# Altium footprint library 5015681507.PcbLib: 1 footprints
Each footprint in its own frame and in the unit in brackets; x right, y up, seen from the top. Pads: shape width x height; smd on the part's side, far side on the other; paste and mask are expansions set on the pad; w line width, h text height; cw(c..) or ccw(c..) is an arc to the next point about the centre after c.
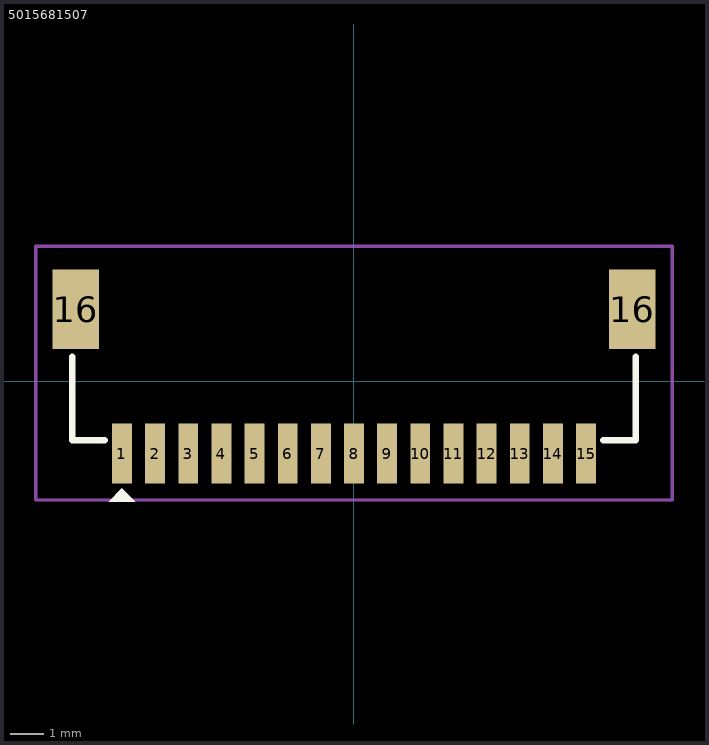
[diagram p0: the footprint, top view; thin cyan lines are the x and y axes]

## 5015681507 [mm]
pads (17):
  rect 0.6x1.8 smd: 1(-7,-2.175) 2(-6,-2.175) 3(-5,-2.175) 4(-4,-2.175) 5(-3,-2.175) 6(-2,-2.175) 7(-1,-2.175) 8(0,-2.175) 9(1,-2.175) 10(2,-2.175) 11(3,-2.175) 12(4,-2.175) 13(5,-2.175) 14(6,-2.175) 15(7,-2.175)
  rect 1.4x2.4 smd: 16(-8.4,2.175) 16(8.4,2.175)
Top Overlay:
  region: -6.6,-3.625 -7.4,-3.625 -7,-3.225
  lines w0.2: -8.5,0.75 -8.5,-1.775 -7.525,-1.775 ; 7.525,-1.775 8.5,-1.775 8.5,0.75
Top Courtyard:
  lines w0.1: -9.6,0.975 -9.6,-3.575 ; -9.6,-3.575 -9.6,4.075 9.6,4.075 9.6,-3.575 -9.6,-3.575
3D body "5015681507.stp": height 4.7, standoff 0, extent -8.5,-2.325 8.5,3.575